# EAGLE library part TCA9543A (library brett)
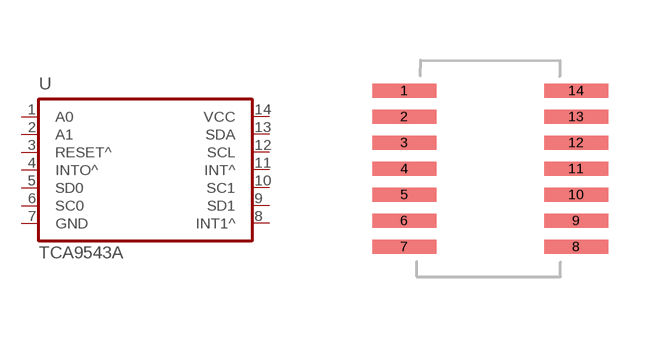
[diagram p3: symbol with the pads of TCA9543A-PW; footprint TCA9543A-PW]

Designator prefix -

## TCA9543A  [TCA9543A-PW]
1  A0  pwr
2  A1
3  RESET^
4  INTO^
5  SD0  in
6  SC0
7  GND
8  INT1^
9  SD1
10  SC1
11  INT^
12  SCL
13  SDA
14  VCC  pwr

## Footprint TCA9543A-PW (pad centres in mm)
smd 1.6 x 0.35: 1 1.3,3.9; 2 1.3,3.25; 3 1.3,2.6; 4 1.3,1.95; 5 1.3,1.3; 6 1.3,0.65; 7 1.3,0; 8 5.6,0; 9 5.6,0.65; 10 5.6,1.3; 11 5.6,1.95; 12 5.6,2.6; 13 5.6,3.25; 14 5.6,3.9